# Altium schematic symbol library wa-t247-101e.SchLib: 1 symbol
Pins are listed as number, name and electrical type; pins without a type are passive.

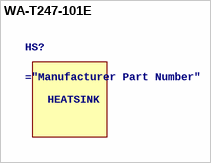
[diagram p0: symbol WA-T247-101E]

## WA-T247-101E
designator HS?
Heat Sink, 11ohm, Extruded, Clip, Longitudinal, Aluminum Alloy, Anodized
text: HEATSINK